# Altium integrated library Elantec Operational Amplifier.IntLib: 201 symbols (part 2 of 4)
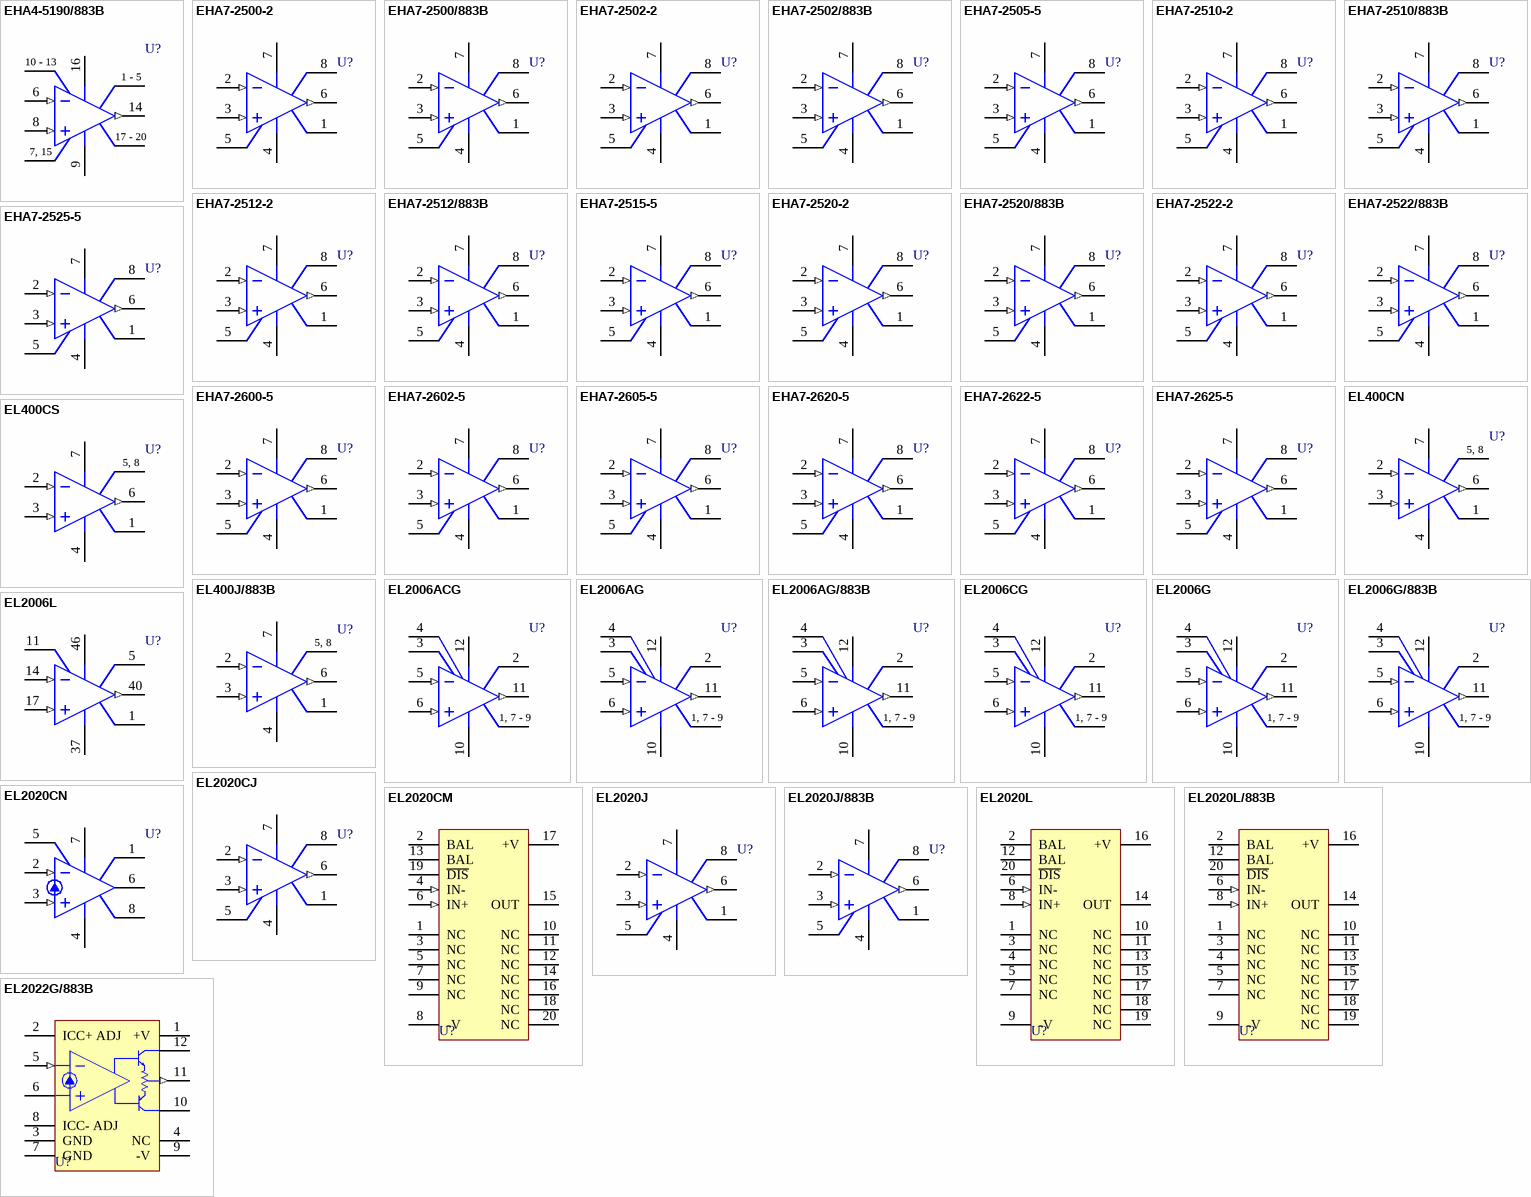
[diagram p8: symbols EHA4-5190/883B to EL2022G/883B]

## EL2020CM
designator U?
50 MHz Current Feedback Amplifier; Published: 8-Jun-2000; LatestRevisionDate: 13-Apr-2006; LatestRevisionNote: IPC-7351 Footprint Added.; DatasheetVersion: Dec-1995; PackageReference: SOL-20; Publisher: Altium Limited; PackageDescription: 20-Pin Small Outline Integrated Circuit 1.27 mm Pitch; ComponentLink1Description: Manufacturer Link; ComponentLink1URL: http://www.intersil.com/cda/home/
footprint SOL-20_N (SOIC, 20-Leads, Body 12.8x7.5mm, Pitch 1.27mm, IPC Medium Density)
footprint SOL-20_L (SOIC, 20-Leads, Body 12.8x7.5mm, Pitch 1.27mm, IPC High Density)
footprint SOL-20_M (SOIC, 20-Leads, Body 12.8x7.5mm, Pitch 1.27mm, IPC Low Density)
3D model SOL-20 (20-Pin Small Outline Integrated Circuit 1.27 mm Pitch)
simulation model EL2020 (SUBCKT)
pins: 1 NC, 2 BAL, 3 NC, 4 IN- (in), 5 NC, 6 IN+ (in), 7 NC, 8 -V (power), 9 NC, 10 NC, 11 NC, 12 NC, 13 BAL, 14 NC, 15 OUT (hiz), 16 NC, 17 +V (power), 18 NC, 19 ~{DIS}, 20 NC

## EL2020CN
designator U?
50 MHz Current Feedback Amplifier; Published: 8-Jun-2000; LatestRevisionDate: 17-Jul-2002; LatestRevisionNote: Re-released for DXP Platform.; DatasheetVersion: Dec-1995; PackageReference: MDP0031-8; Publisher: Altium Limited; PackageDescription: DIP; 8 Leads; Row Spacing 7.62 mm; Pitch 2.54 mm; ComponentLink1Description: Manufacturer Link; ComponentLink1URL: http://www.intersil.com/cda/home/
footprint MDP0031-8 (DIP; 8 Leads; Row Spacing 7.62 mm; Pitch 2.54 mm)
simulation model EL2020 (SUBCKT)
pins: 1 BAL, 2 IN- (in), 3 IN+ (in), 4 V- (power), 5 BAL, 6 OUT (hiz), 7 V+ (power), 8 ~{DIS}

## EL2020J
designator U?
50 MHz Current Feedback Amplifier; Published: 8-Jun-2000; LatestRevisionDate: 04-Mar-2005; LatestRevisionNote: Stylized 3D Model Added.; DatasheetVersion: Jul-1992; PackageReference: MDP0010; Publisher: Altium Limited; PackageDescription: DIP; 8 Leads; Row Spacing 7.62 mm; Pitch 2.54 mm; ComponentLink1Description: Manufacturer Link; ComponentLink1URL: http://www.intersil.com/cda/home/
footprint MDP0010 (DIP; 8 Leads; Row Spacing 7.62 mm; Pitch 2.54 mm)
3D model MDP0010 (DIP; 8 Leads; Row Spacing 7.62 mm; Pitch 2.54 mm)
simulation model EL2020 (SUBCKT)
pins: 1 BAL, 2 IN- (in), 3 IN+ (in), 4 V- (power), 5 BAL, 6 OUT (out), 7 V+ (power), 8 CMPEN

## EL2020J/883B
designator U?
50 MHz Current Feedback Amplifier; Published: 8-Jun-2000; LatestRevisionDate: 04-Mar-2005; LatestRevisionNote: Stylized 3D Model Added.; DatasheetVersion: Jul-1992; PackageReference: MDP0010; Publisher: Altium Limited; PackageDescription: DIP; 8 Leads; Row Spacing 7.62 mm; Pitch 2.54 mm; ComponentLink1Description: Manufacturer Link; ComponentLink1URL: http://www.intersil.com/cda/home/
footprint MDP0010 (DIP; 8 Leads; Row Spacing 7.62 mm; Pitch 2.54 mm)
3D model MDP0010 (DIP; 8 Leads; Row Spacing 7.62 mm; Pitch 2.54 mm)
simulation model EL2020 (SUBCKT)
pins: 1 BAL, 2 IN- (in), 3 IN+ (in), 4 V- (power), 5 BAL, 6 OUT (out), 7 V+ (power), 8 CMPEN

## EL2020L
designator U?
50 MHz Current Feedback Amplifier; Published: 8-Jun-2000; LatestRevisionDate: 17-Jul-2002; LatestRevisionNote: Re-released for DXP Platform.; DatasheetVersion: Jul-1992; PackageVersion: 1993; PackageReference: MDP0007; Publisher: Altium Limited; PackageDescription: Leadless Chip Carrier; 20 Terminals; Body 8.9 x 8.9 mm; ComponentLink1Description: Manufacturer Link; ComponentLink1URL: http://www.intersil.com/cda/home/
footprint MDP0007 (Leadless Chip Carrier; 20 Terminals; Body 8.9 x 8.9 mm)
simulation model EL2020 (SUBCKT)
pins: 1 NC, 2 BAL, 3 NC, 4 NC, 5 NC, 6 IN- (in), 7 NC, 8 IN+ (in), 9 -V (power), 10 NC, 11 NC, 12 BAL, 13 NC, 14 OUT (hiz), 15 NC, 16 +V (power), 17 NC, 18 NC, 19 NC, 20 ~{DIS}

## EL2020L/883B
designator U?
50 MHz Current Feedback Amplifier; Published: 8-Jun-2000; LatestRevisionDate: 17-Jul-2002; LatestRevisionNote: Re-released for DXP Platform.; DatasheetVersion: Jul-1992; PackageVersion: 1993; PackageReference: MDP0007; Publisher: Altium Limited; PackageDescription: Leadless Chip Carrier; 20 Terminals; Body 8.9 x 8.9 mm; ComponentLink1Description: Manufacturer Link; ComponentLink1URL: http://www.intersil.com/cda/home/
footprint MDP0007 (Leadless Chip Carrier; 20 Terminals; Body 8.9 x 8.9 mm)
simulation model EL2020 (SUBCKT)
pins: 1 NC, 2 BAL, 3 NC, 4 NC, 5 NC, 6 IN- (in), 7 NC, 8 IN+ (in), 9 -V (power), 10 NC, 11 NC, 12 BAL, 13 NC, 14 OUT (hiz), 15 NC, 16 +V (power), 17 NC, 18 NC, 19 NC, 20 ~{DIS}

## EL2022G/883B
designator U?
165 MHz Current Feedback Amplifier; Note: Pins 3 and 7 are connected to case.; Published: 8-Jun-2000; LatestRevisionDate: 17-Jul-2002; LatestRevisionNote: Re-released for DXP Platform.; DatasheetVersion: Jul-1991; PackageVersion: 1993; PackageReference: MDP0002; Publisher: Altium Limited; PackageDescription: Can; 12 Leads; 10.16 mm Square Array; Lead Dia. 0.48 mm (max); ComponentLink1Description: Manufacturer Link; ComponentLink1URL: http://www.intersil.com/cda/home/
footprint MDP0002 (Can; 12 Leads; 10.16 mm Square Array; Lead Dia. 0.48 mm (max))
pins: 1 +V (power), 2 ICC+ ADJ, 3 GND, 4 NC, 5 IN- (in), 6 IN+, 7 GND, 8 ICC- ADJ, 9 -V (power), 10 V- Collector (oc), 11 OUT (out), 12 V+ Collector (oc)

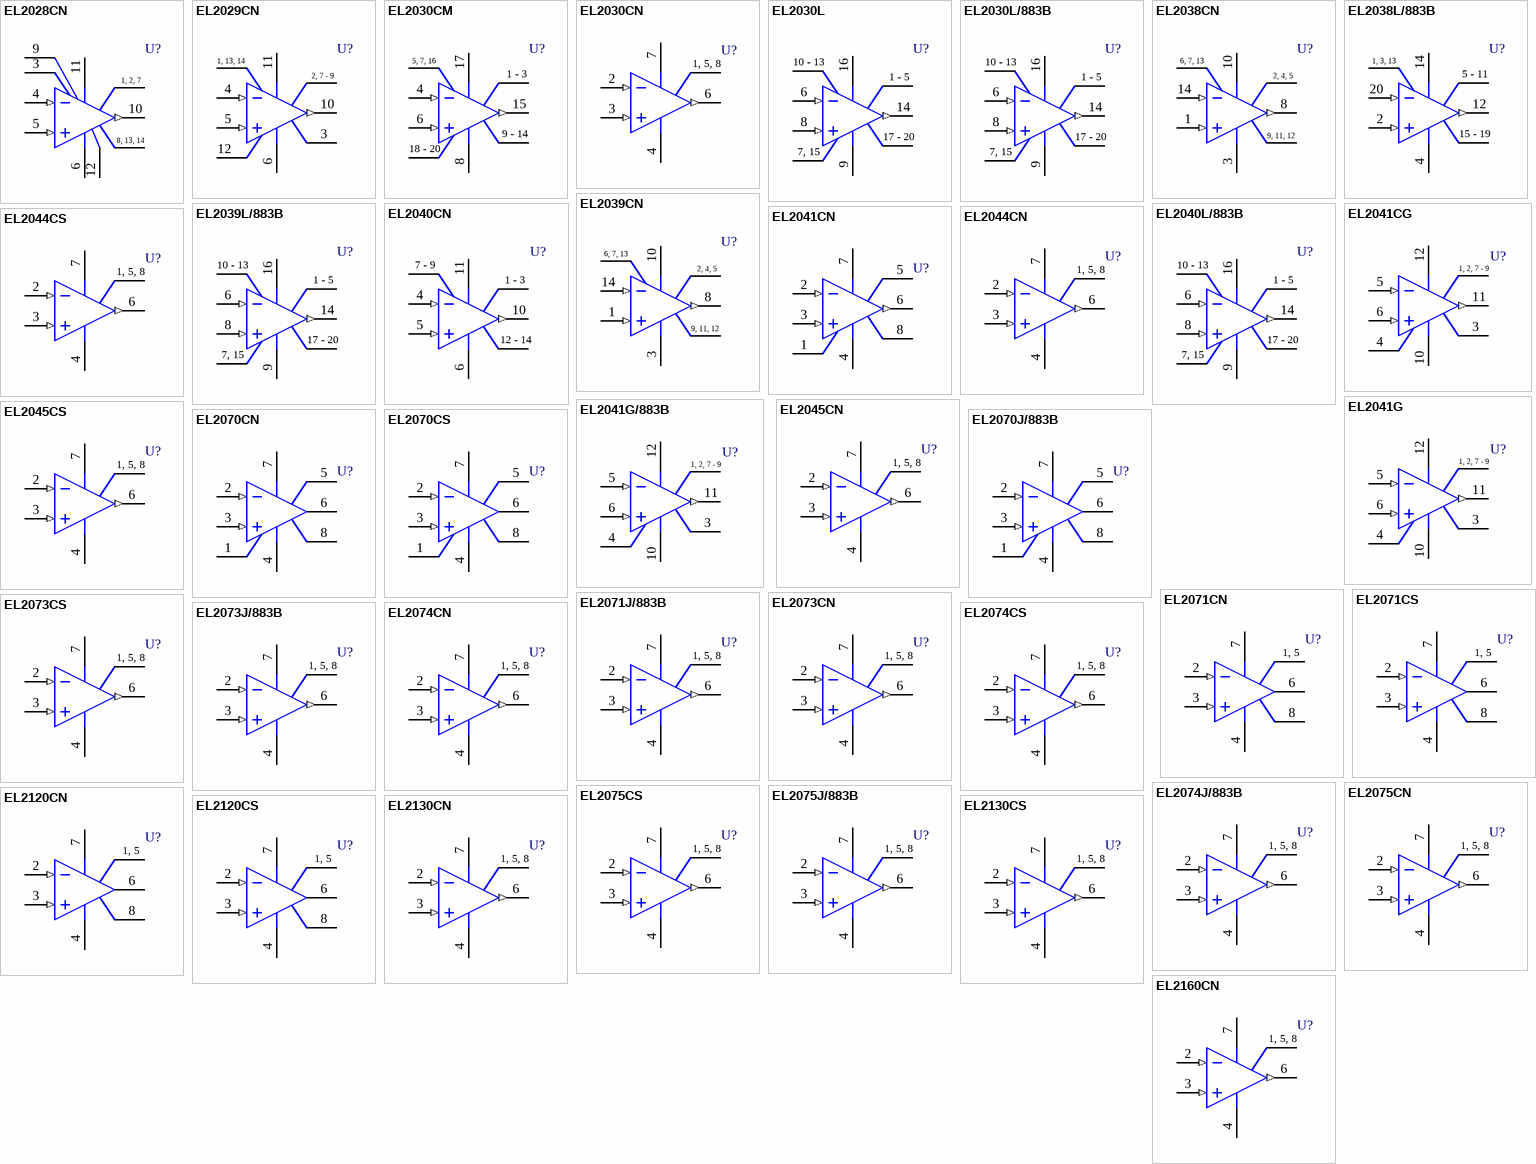
[diagram p2: symbols EL2028CN to EL2160CN]

## EL2028CN
designator U?
0.01% 200ns Unity Gain Stable Operational Amplifier; Note: Pins 1,2,7,8,13,14 are No Connection; Published: 8-Jun-2000; LatestRevisionDate: 04-Mar-2005; LatestRevisionNote: Stylized 3D Model Added.; DatasheetVersion: Jul-1991; PackageReference: MDP0031-14; Publisher: Altium Limited; PackageDescription: DIP; 14 Leads; Row Spacing 7.62 mm; Pitch 2.54 mm; ComponentLink1Description: Manufacturer Link; ComponentLink1URL: http://www.intersil.com/cda/home/
footprint MDP0031-14 (DIP; 14 Leads; Row Spacing 7.62 mm; Pitch 2.54 mm)
3D model MDP0031-14 (DIP; 14 Leads; Row Spacing 7.62 mm; Pitch 2.54 mm)
pins: 1 NC, 2 NC, 3 BAL, 4 IN- (in), 5 IN+ (in), 6 V- (power), 7 NC, 8 NC, 9 BAL, 10 OUT (out), 11 V+ (power), 12 GND (power), 13 NC, 14 NC
text: 1, 2, 7; 8, 13, 14

## EL2029CN
designator U?
0.01% 200ns Operational Amplifier Gain of 5 Stable; Note: Pins 1,2,7,8,13,14 are No Connection; Published: 8-Jun-2000; LatestRevisionDate: 04-Mar-2005; LatestRevisionNote: Stylized 3D Model Added.; DatasheetVersion: Jul-1991; PackageReference: MDP0031-14; Publisher: Altium Limited; PackageDescription: DIP; 14 Leads; Row Spacing 7.62 mm; Pitch 2.54 mm; ComponentLink1Description: Manufacturer Link; ComponentLink1URL: http://www.intersil.com/cda/home/
footprint MDP0031-14 (DIP; 14 Leads; Row Spacing 7.62 mm; Pitch 2.54 mm)
3D model MDP0031-14 (DIP; 14 Leads; Row Spacing 7.62 mm; Pitch 2.54 mm)
pins: 1 NC, 2 NC, 3 OS NULL, 4 IN- (in), 5 IN+ (in), 6 V- (power), 7 NC, 8 NC, 9 NC, 10 OUT (out), 11 V+ (power), 12 OS NULL, 13 NC, 14 NC
text: 1, 13, 14; 2, 7 - 9

## EL2030CM
designator U?
120 MHz Current Feedback Amplifier; Note: Pins 1-3,5,7,9-14,16,18-20 are No Connection; Published: 8-Jun-2000; LatestRevisionDate: 13-Apr-2006; LatestRevisionNote: IPC-7351 Footprint Added.; DatasheetVersion: Dec-1995; PackageReference: SOL-20; Publisher: Altium Limited; PackageDescription: 20-Pin Small Outline Integrated Circuit 1.27 mm Pitch; ComponentLink1Description: Manufacturer Link; ComponentLink1URL: http://www.intersil.com/cda/home/
footprint SOL-20_N (SOIC, 20-Leads, Body 12.8x7.5mm, Pitch 1.27mm, IPC Medium Density)
footprint SOL-20_L (SOIC, 20-Leads, Body 12.8x7.5mm, Pitch 1.27mm, IPC High Density)
footprint SOL-20_M (SOIC, 20-Leads, Body 12.8x7.5mm, Pitch 1.27mm, IPC Low Density)
3D model SOL-20 (20-Pin Small Outline Integrated Circuit 1.27 mm Pitch)
simulation model EL2030 (SUBCKT)
pins: 1 NC, 2 NC, 3 NC, 4 IN- (in), 5 NC, 6 IN+ (in), 7 NC, 8 V- (power), 9 NC, 10 NC, 11 NC, 12 NC, 13 NC, 14 NC, 15 OUT (out), 16 NC, 17 V+ (power), 18 NC, 19 NC, 20 NC
text: 5, 7, 16; 1 - 3; 9 - 14; 18 - 20

## EL2030CN
designator U?
120 MHz Current Feedback Amplifier; Note: Pins 1,5,8 are No Connection; Published: 8-Jun-2000; LatestRevisionDate: 17-Jul-2002; LatestRevisionNote: Re-released for DXP Platform.; DatasheetVersion: Dec-1995; PackageReference: MDP0031-8; Publisher: Altium Limited; PackageDescription: DIP; 8 Leads; Row Spacing 7.62 mm; Pitch 2.54 mm; ComponentLink1Description: Manufacturer Link; ComponentLink1URL: http://www.intersil.com/cda/home/
footprint MDP0031-8 (DIP; 8 Leads; Row Spacing 7.62 mm; Pitch 2.54 mm)
simulation model EL2030 (SUBCKT)
pins: 1 NC, 2 IN- (in), 3 IN+ (in), 4 V- (power), 5 NC, 6 OUT (out), 7 V+ (power), 8 NC
text: 1, 5, 8

## EL2030L
designator U?
120 MHz Current Feedback Amplifier; Note: Pins 1-5,7,10-13,15,17-20 are No Connection; Published: 8-Jun-2000; LatestRevisionDate: 17-Jul-2002; LatestRevisionNote: Re-released for DXP Platform.; DatasheetVersion: Jul-1992; PackageVersion: 1993; PackageReference: MDP0007; Publisher: Altium Limited; PackageDescription: Leadless Chip Carrier; 20 Terminals; Body 8.9 x 8.9 mm; ComponentLink1Description: Manufacturer Link; ComponentLink1URL: http://www.intersil.com/cda/home/
footprint MDP0007 (Leadless Chip Carrier; 20 Terminals; Body 8.9 x 8.9 mm)
simulation model EL2030 (SUBCKT)
pins: 1 NC, 2 NC, 3 NC, 4 NC, 5 NC, 6 IN- (in), 7 NC, 8 IN+ (in), 9 V- (power), 10 NC, 11 NC, 12 NC, 13 NC, 14 OUT (out), 15 NC, 16 V+ (power), 17 NC, 18 NC, 19 NC, 20 NC
text: 10 - 13; 1 - 5; 17 - 20; 7, 15

## EL2030L/883B
designator U?
120 MHz Current Feedback Amplifier; Note: Pins 1-5,7,10-13,15,17-20 are No Connection; Published: 8-Jun-2000; LatestRevisionDate: 17-Jul-2002; LatestRevisionNote: Re-released for DXP Platform.; DatasheetVersion: Jul-1992; PackageVersion: 1993; PackageReference: MDP0007; Publisher: Altium Limited; PackageDescription: Leadless Chip Carrier; 20 Terminals; Body 8.9 x 8.9 mm; ComponentLink1Description: Manufacturer Link; ComponentLink1URL: http://www.intersil.com/cda/home/
footprint MDP0007 (Leadless Chip Carrier; 20 Terminals; Body 8.9 x 8.9 mm)
simulation model EL2030 (SUBCKT)
pins: 1 NC, 2 NC, 3 NC, 4 NC, 5 NC, 6 IN- (in), 7 NC, 8 IN+ (in), 9 V- (power), 10 NC, 11 NC, 12 NC, 13 NC, 14 OUT (out), 15 NC, 16 V+ (power), 17 NC, 18 NC, 19 NC, 20 NC
text: 10 - 13; 1 - 5; 17 - 20; 7, 15

## EL2038CN
designator U?
1 GHz Operational Amplifier; Published: 8-Jun-2000; LatestRevisionDate: 04-Mar-2005; LatestRevisionNote: Stylized 3D Model Added.; DatasheetVersion: Jul-1992; PackageReference: MDP0031-14; Publisher: Altium Limited; PackageDescription: DIP; 14 Leads; Row Spacing 7.62 mm; Pitch 2.54 mm; ComponentLink1Description: Manufacturer Link; ComponentLink1URL: http://www.intersil.com/cda/home/
footprint MDP0031-14 (DIP; 14 Leads; Row Spacing 7.62 mm; Pitch 2.54 mm)
3D model MDP0031-14 (DIP; 14 Leads; Row Spacing 7.62 mm; Pitch 2.54 mm)
pins: 1 IN+ (in), 2 NC, 3 V- (power), 4 NC, 5 NC, 6 NC, 7 NC, 8 OUT (out), 9 NC, 10 V+ (power), 11 NC, 12 NC, 13 NC, 14 IN- (in)
text: 6, 7, 13; 2, 4, 5; 9, 11, 12

## EL2038L/883B
designator U?
1 GHz Operational Amplifier; Note: Pins 1,3,5-11,13,15-19 are No Connection; Published: 8-Jun-2000; LatestRevisionDate: 17-Jul-2002; LatestRevisionNote: Re-released for DXP Platform.; DatasheetVersion: Jul-1992; PackageVersion: 1993; PackageReference: MDP0007; Publisher: Altium Limited; PackageDescription: Leadless Chip Carrier; 20 Terminals; Body 8.9 x 8.9 mm; ComponentLink1Description: Manufacturer Link; ComponentLink1URL: http://www.intersil.com/cda/home/
footprint MDP0007 (Leadless Chip Carrier; 20 Terminals; Body 8.9 x 8.9 mm)
pins: 1 NC, 2 IN+ (in), 3 NC, 4 V- (power), 5 NC, 6 NC, 7 NC, 8 NC, 9 NC, 10 NC, 11 NC, 12 OUT (out), 13 NC, 14 V+ (power), 15 NC, 16 NC, 17 NC, 18 NC, 19 NC, 20 IN- (in)
text: 1, 3, 13; 5 - 11; 15 - 19

## EL2039CN
designator U?
Very High Slew Rate Wideband Operational Amplifier; Published: 8-Jun-2000; LatestRevisionDate: 04-Mar-2005; LatestRevisionNote: Stylized 3D Model Added.; DatasheetVersion: Nov-1993; PackageReference: MDP0031-14; Publisher: Altium Limited; PackageDescription: DIP; 14 Leads; Row Spacing 7.62 mm; Pitch 2.54 mm; ComponentLink1Description: Manufacturer Link; ComponentLink1URL: http://www.intersil.com/cda/home/
footprint MDP0031-14 (DIP; 14 Leads; Row Spacing 7.62 mm; Pitch 2.54 mm)
3D model MDP0031-14 (DIP; 14 Leads; Row Spacing 7.62 mm; Pitch 2.54 mm)
pins: 1 IN+ (in), 2 NC, 3 V- (power), 4 NC, 5 NC, 6 NC, 7 NC, 8 OUT (out), 9 NC, 10 V+ (power), 11 NC, 12 NC, 13 NC, 14 IN- (in)
text: 6, 7, 13; 2, 4, 5; 9, 11, 12

## EL2039L/883B
designator U?
Very High Slew Rate Wideband Operational Amplifier; Published: 8-Jun-2000; LatestRevisionDate: 17-Jul-2002; LatestRevisionNote: Re-released for DXP Platform.; DatasheetVersion: Jul-1991; PackageVersion: 1993; PackageReference: MDP0007; Publisher: Altium Limited; PackageDescription: Leadless Chip Carrier; 20 Terminals; Body 8.9 x 8.9 mm; ComponentLink1Description: Manufacturer Link; ComponentLink1URL: http://www.intersil.com/cda/home/
footprint MDP0007 (Leadless Chip Carrier; 20 Terminals; Body 8.9 x 8.9 mm)
pins: 1 NC, 2 NC, 3 NC, 4 NC, 5 NC, 6 IN- (in), 7 NC, 8 IN+ (in), 9 V- (power), 10 NC, 11 NC, 12 NC, 13 NC, 14 OUT (out), 15 NC, 16 V+ (power), 17 NC, 18 NC, 19 NC, 20 NC
text: 10 - 13; 1 - 5; 17 - 20; 7, 15

## EL2040CN
designator U?
Very High Slew Rate Wideband Operational Amplifier; Note: Pins 1-3,7-9,12-14 are No Connection; Published: 8-Jun-2000; LatestRevisionDate: 04-Mar-2005; LatestRevisionNote: Stylized 3D Model Added.; DatasheetVersion: Nov-1993; PackageReference: MDP0031-14; Publisher: Altium Limited; PackageDescription: DIP; 14 Leads; Row Spacing 7.62 mm; Pitch 2.54 mm; ComponentLink1Description: Manufacturer Link; ComponentLink1URL: http://www.intersil.com/cda/home/
footprint MDP0031-14 (DIP; 14 Leads; Row Spacing 7.62 mm; Pitch 2.54 mm)
3D model MDP0031-14 (DIP; 14 Leads; Row Spacing 7.62 mm; Pitch 2.54 mm)
pins: 1 NC, 2 NC, 3 NC, 4 IN- (in), 5 IN+ (in), 6 V- (power), 7 NC, 8 NC, 9 NC, 10 OUT (out), 11 V+ (power), 12 NC, 13 NC, 14 NC
text: 7 - 9; 1 - 3; 12 - 14

## EL2040L/883B
designator U?
Very High Slew Rate Wideband Operational Amplifier; Published: 8-Jun-2000; LatestRevisionDate: 17-Jul-2002; LatestRevisionNote: Re-released for DXP Platform.; DatasheetVersion: Jul-1991; PackageVersion: 1993; PackageReference: MDP0007; Publisher: Altium Limited; PackageDescription: Leadless Chip Carrier; 20 Terminals; Body 8.9 x 8.9 mm; ComponentLink1Description: Manufacturer Link; ComponentLink1URL: http://www.intersil.com/cda/home/
footprint MDP0007 (Leadless Chip Carrier; 20 Terminals; Body 8.9 x 8.9 mm)
pins: 1 NC, 2 NC, 3 NC, 4 NC, 5 NC, 6 IN- (in), 7 NC, 8 IN+ (in), 9 V- (power), 10 NC, 11 NC, 12 NC, 13 NC, 14 OUT (out), 15 NC, 16 V+ (power), 17 NC, 18 NC, 19 NC, 20 NC
text: 10 - 13; 1 - 5; 17 - 20; 7, 15

## EL2041CG
designator U?
Wideband, Fast Settling, Unity Gain Stable, Operational Amplifier; Note: Pins 1,2,7-9 are No Connection; Published: 8-Jun-2000; LatestRevisionDate: 17-Jul-2002; LatestRevisionNote: Re-released for DXP Platform.; DatasheetVersion: Jun-1992; PackageVersion: 1993; PackageReference: MDP0002; Publisher: Altium Limited; PackageDescription: Can; 12 Leads; 10.16 mm Square Array; Lead Dia. 0.48 mm (max); ComponentLink1Description: Manufacturer Link; ComponentLink1URL: http://www.intersil.com/cda/home/
footprint MDP0002 (Can; 12 Leads; 10.16 mm Square Array; Lead Dia. 0.48 mm (max))
pins: 1 NC, 2 NC, 3 BAL, 4 BAL, 5 IN- (in), 6 IN+ (in), 7 NC, 8 NC, 9 NC, 10 V- (power), 11 OUT (out), 12 V+ (power)
text: 1, 2, 7 - 9

## EL2041CN
designator U?
Wideband, Fast Settling, Unity Gain Stable, Operational Amplifier; Note: Pin 5 is No Connection; Published: 8-Jun-2000; LatestRevisionDate: 17-Jul-2002; LatestRevisionNote: Re-released for DXP Platform.; DatasheetVersion: Jun-1992; PackageReference: MDP0031-8; Publisher: Altium Limited; PackageDescription: DIP; 8 Leads; Row Spacing 7.62 mm; Pitch 2.54 mm; ComponentLink1Description: Manufacturer Link; ComponentLink1URL: http://www.intersil.com/cda/home/
footprint MDP0031-8 (DIP; 8 Leads; Row Spacing 7.62 mm; Pitch 2.54 mm)
pins: 1 CMPEN, 2 IN- (in), 3 IN+ (in), 4 V- (power), 5 NC, 6 OUT (out), 7 V+ (power), 8 CMPEN

## EL2041G
designator U?
Wideband, Fast Settling, Unity Gain Stable, Operational Amplifier; Note: Pins 1,2,7-9 are No Connection; Published: 8-Jun-2000; LatestRevisionDate: 17-Jul-2002; LatestRevisionNote: Re-released for DXP Platform.; DatasheetVersion: Jun-1992; PackageVersion: 1993; PackageReference: MDP0002; Publisher: Altium Limited; PackageDescription: Can; 12 Leads; 10.16 mm Square Array; Lead Dia. 0.48 mm (max); ComponentLink1Description: Manufacturer Link; ComponentLink1URL: http://www.intersil.com/cda/home/
footprint MDP0002 (Can; 12 Leads; 10.16 mm Square Array; Lead Dia. 0.48 mm (max))
pins: 1 NC, 2 NC, 3 BAL, 4 BAL, 5 IN- (in), 6 IN+ (in), 7 NC, 8 NC, 9 NC, 10 V- (power), 11 OUT (out), 12 V+ (power)
text: 1, 2, 7 - 9

## EL2041G/883B
designator U?
Wideband, Fast Settling, Unity Gain Stable, Operational Amplifier; Note: Pins 1,2,7-9 are No Connection; Published: 8-Jun-2000; LatestRevisionDate: 17-Jul-2002; LatestRevisionNote: Re-released for DXP Platform.; DatasheetVersion: Jun-1992; PackageVersion: 1993; PackageReference: MDP0002; Publisher: Altium Limited; PackageDescription: Can; 12 Leads; 10.16 mm Square Array; Lead Dia. 0.48 mm (max); ComponentLink1Description: Manufacturer Link; ComponentLink1URL: http://www.intersil.com/cda/home/
footprint MDP0002 (Can; 12 Leads; 10.16 mm Square Array; Lead Dia. 0.48 mm (max))
pins: 1 NC, 2 NC, 3 BAL, 4 BAL, 5 IN- (in), 6 IN+ (in), 7 NC, 8 NC, 9 NC, 10 V- (power), 11 OUT (out), 12 V+ (power)
text: 1, 2, 7 - 9

## EL2044CN
designator U?
Low Power / Low Voltage 120 MHz Unity-Gain Stable Operational Amplifier; Note: Pins 1,5,8 are No Connection; Published: 8-Jun-2000; LatestRevisionDate: 17-Jul-2002; LatestRevisionNote: Re-released for DXP Platform.; DatasheetVersion: Dec-1995; PackageReference: MDP0031-8; Publisher: Altium Limited; PackageDescription: DIP; 8 Leads; Row Spacing 7.62 mm; Pitch 2.54 mm; ComponentLink1Description: Manufacturer Link; ComponentLink1URL: http://www.intersil.com/cda/home/; ComponentLink2Description: Datasheet; ComponentLink2URL: http://www.intersil.com/data/fn/fn7029.pdf
footprint MDP0031-8 (DIP; 8 Leads; Row Spacing 7.62 mm; Pitch 2.54 mm)
simulation model EL2044 (SUBCKT)
pins: 1 NC, 2 IN- (in), 3 IN+ (in), 4 V- (power), 5 NC, 6 OUT (out), 7 V+ (power), 8 NC
text: 1, 5, 8

## EL2044CS
designator U?
Low Power / Low Voltage 120 MHz Unity-Gain Stable Operational Amplifier; Note: Pins 1,5,8 are No Connection; Published: 8-Jun-2000; LatestRevisionDate: 13-Apr-2006; LatestRevisionNote: IPC-7351 Footprint Added.; DatasheetVersion: Dec-1995; PackageReference: SO-8; Publisher: Altium Limited; PackageDescription: 8-Pin Small Outline Integrated Circuit 1.27 mm Pitch; ComponentLink1Description: Manufacturer Link; ComponentLink1URL: http://www.intersil.com/cda/home/; ComponentLink2Description: Datasheet; ComponentLink2URL: http://www.intersil.com/data/fn/fn7029.pdf
footprint SO-8_N (SOIC, 8-Leads, Body 4.9x3.9mm, Pitch 1.27mm, IPC Medium Density)
footprint SO-8_L (SOIC, 8-Leads, Body 4.9x3.9mm, Pitch 1.27mm, IPC High Density)
footprint SO-8_M (SOIC, 8-Leads, Body 4.9x3.9mm, Pitch 1.27mm, IPC Low Density)
3D model SO-8 (8-Pin Small Outline Integrated Circuit 1.27 mm Pitch)
simulation model EL2044 (SUBCKT)
pins: 1 NC, 2 IN- (in), 3 IN+ (in), 4 V- (power), 5 NC, 6 OUT (out), 7 V+ (power), 8 NC
text: 1, 5, 8

## EL2045CN
designator U?
Low Power 100 MHz Gain-of-2 Stable Operational Amplifier; Note: Pins 1,5,8 are No Connection; Published: 8-Jun-2000; LatestRevisionDate: 17-Jul-2002; LatestRevisionNote: Re-released for DXP Platform.; DatasheetVersion: Dec-1995; PackageReference: MDP0031-8; Publisher: Altium Limited; PackageDescription: DIP; 8 Leads; Row Spacing 7.62 mm; Pitch 2.54 mm; ComponentLink1Description: Manufacturer Link; ComponentLink1URL: http://www.intersil.com/cda/home/; ComponentLink2Description: Datasheet; ComponentLink2URL: http://www.intersil.com/data/fn/fn7030.pdf
footprint MDP0031-8 (DIP; 8 Leads; Row Spacing 7.62 mm; Pitch 2.54 mm)
simulation model EL2045 (SUBCKT)
pins: 1 NC, 2 IN- (in), 3 IN+ (in), 4 V- (power), 5 NC, 6 OUT (out), 7 V+ (power), 8 NC
text: 1, 5, 8

## EL2045CS
designator U?
Low Power 100 MHz Gain-of-2 Stable Operational Amplifier; Note: Pins 1,5,8 are No Connection; Published: 8-Jun-2000; LatestRevisionDate: 13-Apr-2006; LatestRevisionNote: IPC-7351 Footprint Added.; DatasheetVersion: Dec-1995; PackageReference: SO-8; Publisher: Altium Limited; PackageDescription: 8-Pin Small Outline Integrated Circuit 1.27 mm Pitch; ComponentLink1Description: Manufacturer Link; ComponentLink1URL: http://www.intersil.com/cda/home/; ComponentLink2Description: Datasheet; ComponentLink2URL: http://www.intersil.com/data/fn/fn7030.pdf
footprint SO-8_N (SOIC, 8-Leads, Body 4.9x3.9mm, Pitch 1.27mm, IPC Medium Density)
footprint SO-8_L (SOIC, 8-Leads, Body 4.9x3.9mm, Pitch 1.27mm, IPC High Density)
footprint SO-8_M (SOIC, 8-Leads, Body 4.9x3.9mm, Pitch 1.27mm, IPC Low Density)
3D model SO-8 (8-Pin Small Outline Integrated Circuit 1.27 mm Pitch)
simulation model EL2045 (SUBCKT)
pins: 1 NC, 2 IN- (in), 3 IN+ (in), 4 V- (power), 5 NC, 6 OUT (out), 7 V+ (power), 8 NC
text: 1, 5, 8

## EL2070CN
designator U?
200 MHz Current Feedback Amplifier; Published: 8-Jun-2000; LatestRevisionDate: 17-Jul-2002; LatestRevisionNote: Re-released for DXP Platform.; DatasheetVersion: Dec-1995; PackageReference: MDP0031-8; Publisher: Altium Limited; PackageDescription: DIP; 8 Leads; Row Spacing 7.62 mm; Pitch 2.54 mm; ComponentLink1Description: Manufacturer Link; ComponentLink1URL: http://www.intersil.com/cda/home/
footprint MDP0031-8 (DIP; 8 Leads; Row Spacing 7.62 mm; Pitch 2.54 mm)
simulation model EL2070 (SUBCKT)
pins: 1 OS ADJ, 2 IN- (in), 3 IN+ (in), 4 V- (power), 5 NC, 6 OUT (hiz), 7 V+ (power), 8 ~{DIS}

## EL2070CS
designator U?
200 MHz Current Feedback Amplifier; Published: 8-Jun-2000; LatestRevisionDate: 13-Apr-2006; LatestRevisionNote: IPC-7351 Footprint Added.; DatasheetVersion: Dec-1995; PackageReference: SO-8; Publisher: Altium Limited; PackageDescription: 8-Pin Small Outline Integrated Circuit 1.27 mm Pitch; ComponentLink1Description: Manufacturer Link; ComponentLink1URL: http://www.intersil.com/cda/home/
footprint SO-8_N (SOIC, 8-Leads, Body 4.9x3.9mm, Pitch 1.27mm, IPC Medium Density)
footprint SO-8_L (SOIC, 8-Leads, Body 4.9x3.9mm, Pitch 1.27mm, IPC High Density)
footprint SO-8_M (SOIC, 8-Leads, Body 4.9x3.9mm, Pitch 1.27mm, IPC Low Density)
3D model SO-8 (8-Pin Small Outline Integrated Circuit 1.27 mm Pitch)
simulation model EL2070 (SUBCKT)
pins: 1 OS ADJ, 2 IN- (in), 3 IN+ (in), 4 V- (power), 5 NC, 6 OUT (hiz), 7 V+ (power), 8 ~{DIS}

## EL2070J/883B
designator U?
200 MHz Current Feedback Amplifier; Note: Pin 5 is No Connection; Published: 8-Jun-2000; LatestRevisionDate: 04-Mar-2005; LatestRevisionNote: Stylized 3D Model Added.; DatasheetVersion: Jul-1992; PackageReference: MDP0010; Publisher: Altium Limited; PackageDescription: DIP; 8 Leads; Row Spacing 7.62 mm; Pitch 2.54 mm; ComponentLink1Description: Manufacturer Link; ComponentLink1URL: http://www.intersil.com/cda/home/
footprint MDP0010 (DIP; 8 Leads; Row Spacing 7.62 mm; Pitch 2.54 mm)
3D model MDP0010 (DIP; 8 Leads; Row Spacing 7.62 mm; Pitch 2.54 mm)
simulation model EL2070 (SUBCKT)
pins: 1 OS ADJ, 2 IN- (in), 3 IN+ (in), 4 V- (power), 5 NC, 6 OUT (hiz), 7 V+ (power), 8 ~{DIS}

## EL2071CN
designator U?
150 MHz Current Feedback  Amplifier; Published: 8-Jun-2000; LatestRevisionDate: 17-Jul-2002; LatestRevisionNote: Re-released for DXP Platform.; DatasheetVersion: Dec-1995; PackageReference: MDP0031-8; Publisher: Altium Limited; PackageDescription: DIP; 8 Leads; Row Spacing 7.62 mm; Pitch 2.54 mm; ComponentLink1Description: Manufacturer Link; ComponentLink1URL: http://www.intersil.com/cda/home/
footprint MDP0031-8 (DIP; 8 Leads; Row Spacing 7.62 mm; Pitch 2.54 mm)
simulation model EL2071 (SUBCKT)
pins: 1 NC, 2 IN- (in), 3 IN+ (in), 4 V- (power), 5 NC, 6 OUT (hiz), 7 V+ (power), 8 DIS
text: 1, 5

## EL2071CS
designator U?
150 MHz Current Feedback Amplifier; Published: 8-Jun-2000; LatestRevisionDate: 13-Apr-2006; LatestRevisionNote: IPC-7351 Footprint Added.; DatasheetVersion: Dec-1995; PackageReference: SO-8; Publisher: Altium Limited; PackageDescription: 8-Pin Small Outline Integrated Circuit 1.27 mm Pitch; ComponentLink1Description: Manufacturer Link; ComponentLink1URL: http://www.intersil.com/cda/home/
footprint SO-8_N (SOIC, 8-Leads, Body 4.9x3.9mm, Pitch 1.27mm, IPC Medium Density)
footprint SO-8_L (SOIC, 8-Leads, Body 4.9x3.9mm, Pitch 1.27mm, IPC High Density)
footprint SO-8_M (SOIC, 8-Leads, Body 4.9x3.9mm, Pitch 1.27mm, IPC Low Density)
3D model SO-8 (8-Pin Small Outline Integrated Circuit 1.27 mm Pitch)
simulation model EL2071 (SUBCKT)
pins: 1 NC, 2 IN- (in), 3 IN+ (in), 4 V- (power), 5 NC, 6 OUT (hiz), 7 V+ (power), 8 DIS
text: 1, 5

## EL2071J/883B
designator U?
150 MHz Current Feedback Amplifier; Note: Pins 1,5,8 are No Connection; Published: 8-Jun-2000; LatestRevisionDate: 04-Mar-2005; LatestRevisionNote: Stylized 3D Model Added.; DatasheetVersion: Jul-1992; PackageReference: MDP0010; Publisher: Altium Limited; PackageDescription: DIP; 8 Leads; Row Spacing 7.62 mm; Pitch 2.54 mm; ComponentLink1Description: Manufacturer Link; ComponentLink1URL: http://www.intersil.com/cda/home/
footprint MDP0010 (DIP; 8 Leads; Row Spacing 7.62 mm; Pitch 2.54 mm)
3D model MDP0010 (DIP; 8 Leads; Row Spacing 7.62 mm; Pitch 2.54 mm)
simulation model EL2071 (SUBCKT)
pins: 1 NC, 2 IN- (in), 3 IN+ (in), 4 V- (power), 5 NC, 6 OUT (out), 7 V+ (power), 8 NC
text: 1, 5, 8

## EL2073CN
designator U?
200 MHz Unity-Gain Stable Operational Amplifier; Note: Pins 1,5,8 are No Connection; Published: 8-Jun-2000; LatestRevisionDate: 17-Jul-2002; LatestRevisionNote: Re-released for DXP Platform.; DatasheetVersion: Jan-1995; PackageReference: MDP0031-8; Publisher: Altium Limited; PackageDescription: DIP; 8 Leads; Row Spacing 7.62 mm; Pitch 2.54 mm; ComponentLink1Description: Manufacturer Link; ComponentLink1URL: http://www.intersil.com/cda/home/
footprint MDP0031-8 (DIP; 8 Leads; Row Spacing 7.62 mm; Pitch 2.54 mm)
simulation model EL2073 (SUBCKT)
pins: 1 NC, 2 IN- (in), 3 IN+ (in), 4 V- (power), 5 NC, 6 OUT (out), 7 V+ (power), 8 NC
text: 1, 5, 8

## EL2073CS
designator U?
200 MHz Unity-Gain Stable Operational Amplifier; Note: Pins 1,5,8 are No Connection; Published: 8-Jun-2000; LatestRevisionDate: 13-Apr-2006; LatestRevisionNote: IPC-7351 Footprint Added.; DatasheetVersion: Jan-1995; PackageReference: SO-8; Publisher: Altium Limited; PackageDescription: 8-Pin Small Outline Integrated Circuit 1.27 mm Pitch; ComponentLink1Description: Manufacturer Link; ComponentLink1URL: http://www.intersil.com/cda/home/
footprint SO-8_N (SOIC, 8-Leads, Body 4.9x3.9mm, Pitch 1.27mm, IPC Medium Density)
footprint SO-8_L (SOIC, 8-Leads, Body 4.9x3.9mm, Pitch 1.27mm, IPC High Density)
footprint SO-8_M (SOIC, 8-Leads, Body 4.9x3.9mm, Pitch 1.27mm, IPC Low Density)
3D model SO-8 (8-Pin Small Outline Integrated Circuit 1.27 mm Pitch)
simulation model EL2073 (SUBCKT)
pins: 1 NC, 2 IN- (in), 3 IN+ (in), 4 V- (power), 5 NC, 6 OUT (out), 7 V+ (power), 8 NC
text: 1, 5, 8

## EL2073J/883B
designator U?
200 MHz Unity-Gain Stable Operational Amplifier; Note: Pins 1,5,8 are No Connection; Published: 8-Jun-2000; LatestRevisionDate: 04-Mar-2005; LatestRevisionNote: Stylized 3D Model Added.; DatasheetVersion: Jul-1992; PackageReference: MDP0010; Publisher: Altium Limited; PackageDescription: DIP; 8 Leads; Row Spacing 7.62 mm; Pitch 2.54 mm; ComponentLink1Description: Manufacturer Link; ComponentLink1URL: http://www.intersil.com/cda/home/
footprint MDP0010 (DIP; 8 Leads; Row Spacing 7.62 mm; Pitch 2.54 mm)
3D model MDP0010 (DIP; 8 Leads; Row Spacing 7.62 mm; Pitch 2.54 mm)
simulation model EL2073 (SUBCKT)
pins: 1 NC, 2 IN- (in), 3 IN+ (in), 4 V- (power), 5 NC, 6 OUT (out), 7 V+ (power), 8 NC
text: 1, 5, 8

## EL2074CN
designator U?
400 MHz GBWP Gain-of-2 Stable Operational Amplifier; Note: Pins 1,5,8 are No Connection; Published: 8-Jun-2000; LatestRevisionDate: 17-Jul-2002; LatestRevisionNote: Re-released for DXP Platform.; DatasheetVersion: Jan-1995; PackageReference: MDP0031-8; Publisher: Altium Limited; PackageDescription: DIP; 8 Leads; Row Spacing 7.62 mm; Pitch 2.54 mm; ComponentLink1Description: Manufacturer Link; ComponentLink1URL: http://www.intersil.com/cda/home/
footprint MDP0031-8 (DIP; 8 Leads; Row Spacing 7.62 mm; Pitch 2.54 mm)
simulation model EL2074 (SUBCKT)
pins: 1 NC, 2 IN- (in), 3 IN+ (in), 4 V- (power), 5 NC, 6 OUT (out), 7 V+ (power), 8 NC
text: 1, 5, 8

## EL2074CS
designator U?
400 MHz GBWP Gain-of-2 Stable Operational Amplifier; Note: Pins 1,5,8 are No Connection; Published: 8-Jun-2000; LatestRevisionDate: 13-Apr-2006; LatestRevisionNote: IPC-7351 Footprint Added.; DatasheetVersion: Jan-1995; PackageReference: SO-8; Publisher: Altium Limited; PackageDescription: 8-Pin Small Outline Integrated Circuit 1.27 mm Pitch; ComponentLink1Description: Manufacturer Link; ComponentLink1URL: http://www.intersil.com/cda/home/
footprint SO-8_N (SOIC, 8-Leads, Body 4.9x3.9mm, Pitch 1.27mm, IPC Medium Density)
footprint SO-8_L (SOIC, 8-Leads, Body 4.9x3.9mm, Pitch 1.27mm, IPC High Density)
footprint SO-8_M (SOIC, 8-Leads, Body 4.9x3.9mm, Pitch 1.27mm, IPC Low Density)
3D model SO-8 (8-Pin Small Outline Integrated Circuit 1.27 mm Pitch)
simulation model EL2074 (SUBCKT)
pins: 1 NC, 2 IN- (in), 3 IN+ (in), 4 V- (power), 5 NC, 6 OUT (out), 7 V+ (power), 8 NC
text: 1, 5, 8

## EL2074J/883B
designator U?
400 MHz GBWP Gain-of-2 Stable Operational Amplifier; Note: Pins 1,5,8 are No Connection; Published: 8-Jun-2000; LatestRevisionDate: 04-Mar-2005; LatestRevisionNote: Stylized 3D Model Added.; DatasheetVersion: Aug-1992; PackageReference: MDP0010; Publisher: Altium Limited; PackageDescription: DIP; 8 Leads; Row Spacing 7.62 mm; Pitch 2.54 mm; ComponentLink1Description: Manufacturer Link; ComponentLink1URL: http://www.intersil.com/cda/home/
footprint MDP0010 (DIP; 8 Leads; Row Spacing 7.62 mm; Pitch 2.54 mm)
3D model MDP0010 (DIP; 8 Leads; Row Spacing 7.62 mm; Pitch 2.54 mm)
simulation model EL2074 (SUBCKT)
pins: 1 NC, 2 IN- (in), 3 IN+ (in), 4 V- (power), 5 NC, 6 OUT (out), 7 V+ (power), 8 NC
text: 1, 5, 8

## EL2075CN
designator U?
2 GHz GBWP Gain-of-10 Stable Operational Amplifier; Note: Pins 1,5,8 are No Connection; Published: 8-Jun-2000; LatestRevisionDate: 17-Jul-2002; LatestRevisionNote: Re-released for DXP Platform.; DatasheetVersion: Jan-1995; PackageReference: MDP0031-8; Publisher: Altium Limited; PackageDescription: DIP; 8 Leads; Row Spacing 7.62 mm; Pitch 2.54 mm; ComponentLink1Description: Manufacturer Link; ComponentLink1URL: http://www.intersil.com/cda/home/
footprint MDP0031-8 (DIP; 8 Leads; Row Spacing 7.62 mm; Pitch 2.54 mm)
simulation model EL2075 (SUBCKT)
pins: 1 NC, 2 IN- (in), 3 IN+ (in), 4 V- (power), 5 NC, 6 OUT (out), 7 V+ (power), 8 NC
text: 1, 5, 8

## EL2075CS
designator U?
2 GHz GBWP Gain-of-10 Stable Operational Amplifier; Note: Pins 1,5,8 are No Connection; Published: 8-Jun-2000; LatestRevisionDate: 13-Apr-2006; LatestRevisionNote: IPC-7351 Footprint Added.; DatasheetVersion: Jan-1995; PackageReference: SO-8; Publisher: Altium Limited; PackageDescription: 8-Pin Small Outline Integrated Circuit 1.27 mm Pitch; ComponentLink1Description: Manufacturer Link; ComponentLink1URL: http://www.intersil.com/cda/home/
footprint SO-8_N (SOIC, 8-Leads, Body 4.9x3.9mm, Pitch 1.27mm, IPC Medium Density)
footprint SO-8_L (SOIC, 8-Leads, Body 4.9x3.9mm, Pitch 1.27mm, IPC High Density)
footprint SO-8_M (SOIC, 8-Leads, Body 4.9x3.9mm, Pitch 1.27mm, IPC Low Density)
3D model SO-8 (8-Pin Small Outline Integrated Circuit 1.27 mm Pitch)
simulation model EL2075 (SUBCKT)
pins: 1 NC, 2 IN- (in), 3 IN+ (in), 4 V- (power), 5 NC, 6 OUT (out), 7 V+ (power), 8 NC
text: 1, 5, 8

## EL2075J/883B
designator U?
2 GHz GBWP Gain-of-10 Stable Operational Amplifier; Note: Pins 1,5,8 are No Connection; Published: 8-Jun-2000; LatestRevisionDate: 04-Mar-2005; LatestRevisionNote: Stylized 3D Model Added.; DatasheetVersion: Aug-1992; PackageReference: MDP0010; Publisher: Altium Limited; PackageDescription: DIP; 8 Leads; Row Spacing 7.62 mm; Pitch 2.54 mm; ComponentLink1Description: Manufacturer Link; ComponentLink1URL: http://www.intersil.com/cda/home/
footprint MDP0010 (DIP; 8 Leads; Row Spacing 7.62 mm; Pitch 2.54 mm)
3D model MDP0010 (DIP; 8 Leads; Row Spacing 7.62 mm; Pitch 2.54 mm)
simulation model EL2075 (SUBCKT)
pins: 1 NC, 2 IN- (in), 3 IN+ (in), 4 V- (power), 5 NC, 6 OUT (out), 7 V+ (power), 8 NC
text: 1, 5, 8

## EL2120CN
designator U?
100 MHz Current Feedback  Amplifier; Note: Pins 1,5 are No Connection; Published: 8-Jun-2000; LatestRevisionDate: 17-Jul-2002; LatestRevisionNote: Re-released for DXP Platform.; DatasheetVersion: Jan-1996; PackageReference: MDP0031-8; Publisher: Altium Limited; PackageDescription: DIP; 8 Leads; Row Spacing 7.62 mm; Pitch 2.54 mm; ComponentLink1Description: Manufacturer Link; ComponentLink1URL: http://www.intersil.com/cda/home/
footprint MDP0031-8 (DIP; 8 Leads; Row Spacing 7.62 mm; Pitch 2.54 mm)
simulation model EL2120 (SUBCKT)
pins: 1 NC, 2 IN- (in), 3 IN+ (in), 4 V- (power), 5 NC, 6 OUT (hiz), 7 V+ (power), 8 ~{DIS}
text: 1, 5

## EL2120CS
designator U?
100 MHz Current Feedback  Amplifier; Note: Pins 1,5 are No Connection; Published: 8-Jun-2000; LatestRevisionDate: 13-Apr-2006; LatestRevisionNote: IPC-7351 Footprint Added.; DatasheetVersion: Jan-1996; PackageReference: SO-8; Publisher: Altium Limited; PackageDescription: 8-Pin Small Outline Integrated Circuit 1.27 mm Pitch; ComponentLink1Description: Manufacturer Link; ComponentLink1URL: http://www.intersil.com/cda/home/
footprint SO-8_N (SOIC, 8-Leads, Body 4.9x3.9mm, Pitch 1.27mm, IPC Medium Density)
footprint SO-8_L (SOIC, 8-Leads, Body 4.9x3.9mm, Pitch 1.27mm, IPC High Density)
footprint SO-8_M (SOIC, 8-Leads, Body 4.9x3.9mm, Pitch 1.27mm, IPC Low Density)
3D model SO-8 (8-Pin Small Outline Integrated Circuit 1.27 mm Pitch)
simulation model EL2120 (SUBCKT)
pins: 1 NC, 2 IN- (in), 3 IN+ (in), 4 V- (power), 5 NC, 6 OUT (hiz), 7 V+ (power), 8 ~{DIS}
text: 1, 5

## EL2130CN
designator U?
85 MHz Current Feedback Amplifier; Note: Pins 1,5,8 are No Connection; Published: 8-Jun-2000; LatestRevisionDate: 17-Jul-2002; LatestRevisionNote: Re-released for DXP Platform.; DatasheetVersion: Dec-1995; PackageReference: MDP0031-8; Publisher: Altium Limited; PackageDescription: DIP; 8 Leads; Row Spacing 7.62 mm; Pitch 2.54 mm; ComponentLink1Description: Manufacturer Link; ComponentLink1URL: http://www.intersil.com/cda/home/
footprint MDP0031-8 (DIP; 8 Leads; Row Spacing 7.62 mm; Pitch 2.54 mm)
pins: 1 NC, 2 IN- (in), 3 IN+ (in), 4 V- (power), 5 NC, 6 OUT (out), 7 V+ (power), 8 NC
text: 1, 5, 8

## EL2130CS
designator U?
85 MHz Current Feedback Amplifier; Note: Pins 1,5,8 are No Connection; Published: 8-Jun-2000; LatestRevisionDate: 13-Apr-2006; LatestRevisionNote: IPC-7351 Footprint Added.; DatasheetVersion: Dec-1995; PackageReference: SO-8; Publisher: Altium Limited; PackageDescription: 8-Pin Small Outline Integrated Circuit 1.27 mm Pitch; ComponentLink1Description: Manufacturer Link; ComponentLink1URL: http://www.intersil.com/cda/home/
footprint SO-8_N (SOIC, 8-Leads, Body 4.9x3.9mm, Pitch 1.27mm, IPC Medium Density)
footprint SO-8_L (SOIC, 8-Leads, Body 4.9x3.9mm, Pitch 1.27mm, IPC High Density)
footprint SO-8_M (SOIC, 8-Leads, Body 4.9x3.9mm, Pitch 1.27mm, IPC Low Density)
3D model SO-8 (8-Pin Small Outline Integrated Circuit 1.27 mm Pitch)
pins: 1 NC, 2 IN- (in), 3 IN+ (in), 4 V- (power), 5 NC, 6 OUT (out), 7 V+ (power), 8 NC
text: 1, 5, 8

## EL2160CN
designator U?
130 MHz Current Feedback Amplifier; Note: Pins 1,5,8 are No Connection; Published: 8-Jun-2000; LatestRevisionDate: 17-Jul-2002; LatestRevisionNote: Re-released for DXP Platform.; DatasheetVersion: Dec-1995; PackageReference: MDP0031-8; Publisher: Altium Limited; PackageDescription: DIP; 8 Leads; Row Spacing 7.62 mm; Pitch 2.54 mm; ComponentLink1Description: Manufacturer Link; ComponentLink1URL: http://www.intersil.com/cda/home/
footprint MDP0031-8 (DIP; 8 Leads; Row Spacing 7.62 mm; Pitch 2.54 mm)
simulation model EL2160 (SUBCKT)
pins: 1 NC, 2 IN- (in), 3 IN+ (in), 4 V- (power), 5 NC, 6 OUT (out), 7 V+ (power), 8 NC
text: 1, 5, 8

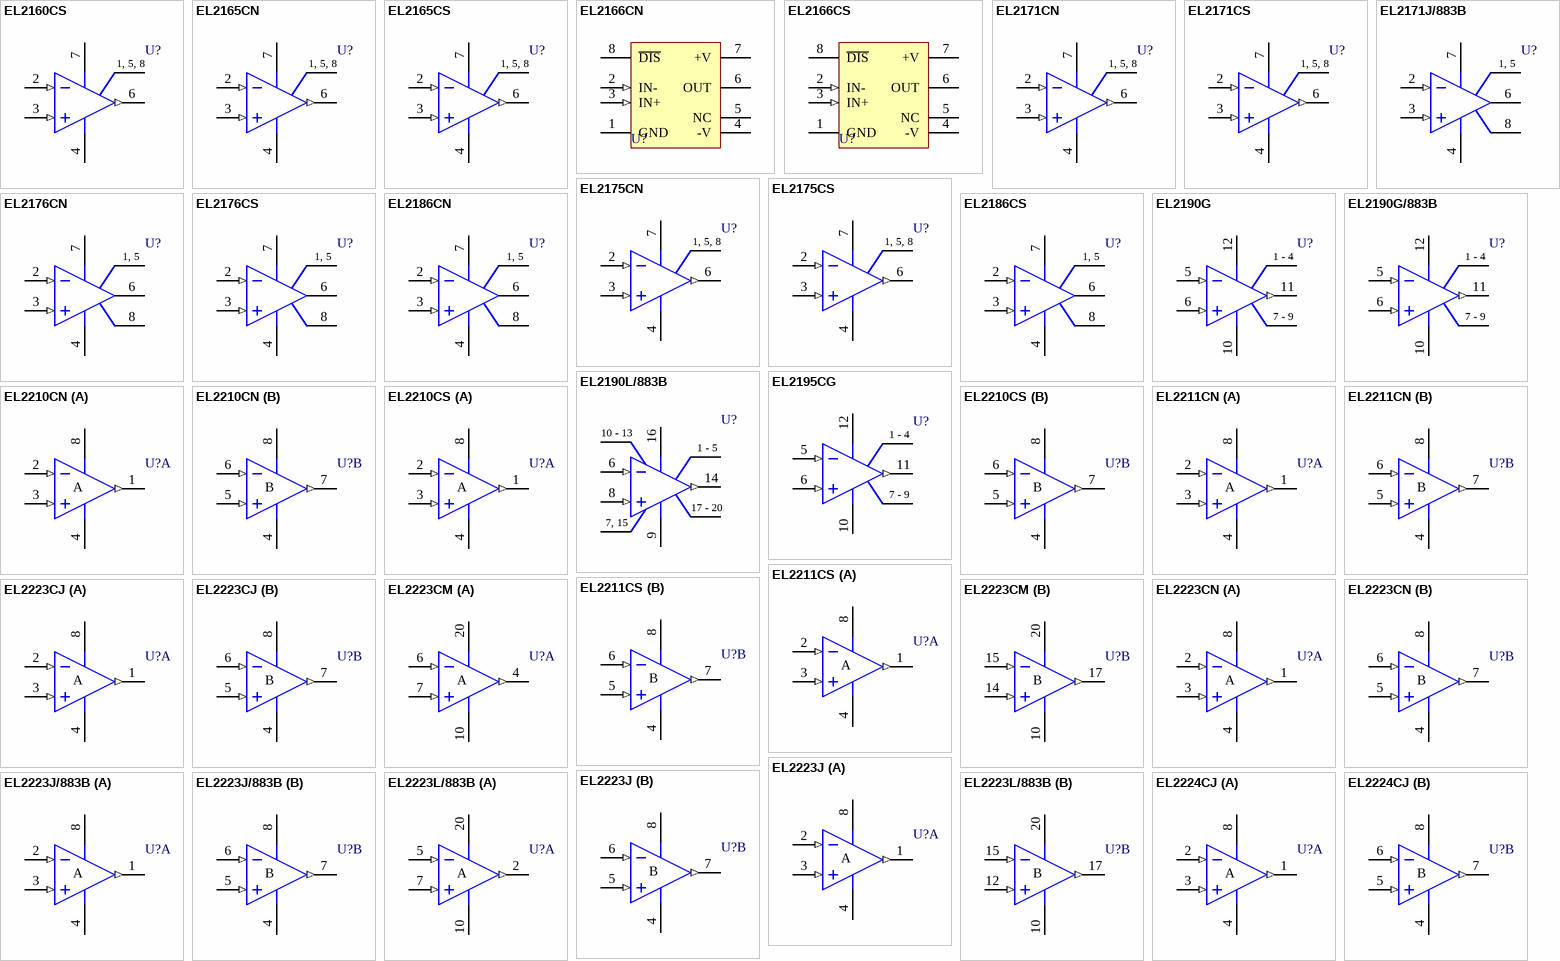
[diagram p3: symbols EL2160CS to EL2224CJ]

## EL2160CS
designator U?
130 MHz Current Feedback Amplifier; Note: Pins 1,5,8 are No Connection; Published: 8-Jun-2000; LatestRevisionDate: 13-Apr-2006; LatestRevisionNote: IPC-7351 Footprint Added.; DatasheetVersion: Dec-1995; PackageReference: SO-8; Publisher: Altium Limited; PackageDescription: 8-Pin Small Outline Integrated Circuit 1.27 mm Pitch; ComponentLink1Description: Manufacturer Link; ComponentLink1URL: http://www.intersil.com/cda/home/
footprint SO-8_N (SOIC, 8-Leads, Body 4.9x3.9mm, Pitch 1.27mm, IPC Medium Density)
footprint SO-8_L (SOIC, 8-Leads, Body 4.9x3.9mm, Pitch 1.27mm, IPC High Density)
footprint SO-8_M (SOIC, 8-Leads, Body 4.9x3.9mm, Pitch 1.27mm, IPC Low Density)
3D model SO-8 (8-Pin Small Outline Integrated Circuit 1.27 mm Pitch)
simulation model EL2160 (SUBCKT)
pins: 1 NC, 2 IN- (in), 3 IN+ (in), 4 V- (power), 5 NC, 6 OUT (out), 7 V+ (power), 8 NC
text: 1, 5, 8

## EL2165CN
designator U?
30 MHz Precision Current Mode Feedback Amplifier; Note: Pins 1,5,8 are No Connection; Published: 8-Jun-2000; LatestRevisionDate: 17-Jul-2002; LatestRevisionNote: Re-released for DXP Platform.; DatasheetVersion: Dec-1995; PackageReference: MDP0031-8; Publisher: Altium Limited; PackageDescription: DIP; 8 Leads; Row Spacing 7.62 mm; Pitch 2.54 mm; ComponentLink1Description: Manufacturer Link; ComponentLink1URL: http://www.intersil.com/cda/home/
footprint MDP0031-8 (DIP; 8 Leads; Row Spacing 7.62 mm; Pitch 2.54 mm)
pins: 1 NC, 2 IN- (in), 3 IN+ (in), 4 V- (power), 5 NC, 6 OUT (out), 7 V+ (power), 8 NC
text: 1, 5, 8

## EL2165CS
designator U?
30 MHz Precision Current Mode Feedback Amplifier; Note: Pins 1,5,8 are No Connection; Published: 8-Jun-2000; LatestRevisionDate: 13-Apr-2006; LatestRevisionNote: IPC-7351 Footprint Added.; DatasheetVersion: Dec-1995; PackageReference: SO-8; Publisher: Altium Limited; PackageDescription: 8-Pin Small Outline Integrated Circuit 1.27 mm Pitch; ComponentLink1Description: Manufacturer Link; ComponentLink1URL: http://www.intersil.com/cda/home/
footprint SO-8_N (SOIC, 8-Leads, Body 4.9x3.9mm, Pitch 1.27mm, IPC Medium Density)
footprint SO-8_L (SOIC, 8-Leads, Body 4.9x3.9mm, Pitch 1.27mm, IPC High Density)
footprint SO-8_M (SOIC, 8-Leads, Body 4.9x3.9mm, Pitch 1.27mm, IPC Low Density)
3D model SO-8 (8-Pin Small Outline Integrated Circuit 1.27 mm Pitch)
pins: 1 NC, 2 IN- (in), 3 IN+ (in), 4 V- (power), 5 NC, 6 OUT (out), 7 V+ (power), 8 NC
text: 1, 5, 8

## EL2166CN
designator U?
110 MHz Current Feedback Amplifier with Disable; Note: Pin 5 is No Connection; Published: 8-Jun-2000; LatestRevisionDate: 17-Jul-2002; LatestRevisionNote: Re-released for DXP Platform.; DatasheetVersion: Dec-1995; PackageReference: MDP0031-8; Publisher: Altium Limited; PackageDescription: DIP; 8 Leads; Row Spacing 7.62 mm; Pitch 2.54 mm; ComponentLink1Description: Manufacturer Link; ComponentLink1URL: http://www.intersil.com/cda/home/
footprint MDP0031-8 (DIP; 8 Leads; Row Spacing 7.62 mm; Pitch 2.54 mm)
simulation model EL2166 (SUBCKT)
pins: 1 GND, 2 IN- (in), 3 IN+ (in), 4 -V (power), 5 NC, 6 OUT (hiz), 7 +V (power), 8 ~{DIS}

## EL2166CS
designator U?
110 MHz Current Feedback Amplifier with Disable; Note: Pin 5 is No Connection; Published: 8-Jun-2000; LatestRevisionDate: 13-Apr-2006; LatestRevisionNote: IPC-7351 Footprint Added.; DatasheetVersion: Dec-1995; PackageReference: SO-8; Publisher: Altium Limited; PackageDescription: 8-Pin Small Outline Integrated Circuit 1.27 mm Pitch; ComponentLink1Description: Manufacturer Link; ComponentLink1URL: http://www.intersil.com/cda/home/
footprint SO-8_N (SOIC, 8-Leads, Body 4.9x3.9mm, Pitch 1.27mm, IPC Medium Density)
footprint SO-8_L (SOIC, 8-Leads, Body 4.9x3.9mm, Pitch 1.27mm, IPC High Density)
footprint SO-8_M (SOIC, 8-Leads, Body 4.9x3.9mm, Pitch 1.27mm, IPC Low Density)
3D model SO-8 (8-Pin Small Outline Integrated Circuit 1.27 mm Pitch)
simulation model EL2166 (SUBCKT)
pins: 1 GND, 2 IN- (in), 3 IN+ (in), 4 -V (power), 5 NC, 6 OUT (hiz), 7 +V (power), 8 ~{DIS}

## EL2171CN
designator U?
150 MHz Current Feedback Amplifier; Note: Pins 1,5,8 are No Connection; Published: 8-Jun-2000; LatestRevisionDate: 17-Jul-2002; LatestRevisionNote: Re-released for DXP Platform.; DatasheetVersion: Dec-1995; PackageReference: MDP0031-8; Publisher: Altium Limited; PackageDescription: DIP; 8 Leads; Row Spacing 7.62 mm; Pitch 2.54 mm; ComponentLink1Description: Manufacturer Link; ComponentLink1URL: http://www.intersil.com/cda/home/
footprint MDP0031-8 (DIP; 8 Leads; Row Spacing 7.62 mm; Pitch 2.54 mm)
pins: 1 NC, 2 IN- (in), 3 IN+ (in), 4 V- (power), 5 NC, 6 OUT (out), 7 V+ (power), 8 NC
text: 1, 5, 8

## EL2171CS
designator U?
150 MHZ Current Feedback Amplifier; Note: Pins 1,5,8 are No Connection; Published: 8-Jun-2000; LatestRevisionDate: 13-Apr-2006; LatestRevisionNote: IPC-7351 Footprint Added.; DatasheetVersion: Dec-1995; PackageReference: SO-8; Publisher: Altium Limited; PackageDescription: 8-Pin Small Outline Integrated Circuit 1.27 mm Pitch; ComponentLink1Description: Manufacturer Link; ComponentLink1URL: http://www.intersil.com/cda/home/
footprint SO-8_N (SOIC, 8-Leads, Body 4.9x3.9mm, Pitch 1.27mm, IPC Medium Density)
footprint SO-8_L (SOIC, 8-Leads, Body 4.9x3.9mm, Pitch 1.27mm, IPC High Density)
footprint SO-8_M (SOIC, 8-Leads, Body 4.9x3.9mm, Pitch 1.27mm, IPC Low Density)
3D model SO-8 (8-Pin Small Outline Integrated Circuit 1.27 mm Pitch)
pins: 1 NC, 2 IN- (in), 3 IN+ (in), 4 V- (power), 5 NC, 6 OUT (out), 7 V+ (power), 8 NC
text: 1, 5, 8

## EL2171J/883B
designator U?
150 MHz Current Feedback Amplifier; Published: 8-Jun-2000; LatestRevisionDate: 04-Mar-2005; LatestRevisionNote: Stylized 3D Model Added.; DatasheetVersion: Jul-1992; PackageReference: MDP0010; Publisher: Altium Limited; PackageDescription: DIP; 8 Leads; Row Spacing 7.62 mm; Pitch 2.54 mm; ComponentLink1Description: Manufacturer Link; ComponentLink1URL: http://www.intersil.com/cda/home/
footprint MDP0010 (DIP; 8 Leads; Row Spacing 7.62 mm; Pitch 2.54 mm)
3D model MDP0010 (DIP; 8 Leads; Row Spacing 7.62 mm; Pitch 2.54 mm)
pins: 1 NC, 2 IN- (in), 3 IN+ (in), 4 V- (power), 5 NC, 6 OUT (hiz), 7 V+ (power), 8 DIS
text: 1, 5

## EL2175CN
designator U?
120 MHz Precision Current Mode Feedback Amplifier; Note: Pins 1,5,8 are No Connection; Published: 8-Jun-2000; LatestRevisionDate: 17-Jul-2002; LatestRevisionNote: Re-released for DXP Platform.; DatasheetVersion: Dec-1995; PackageReference: MDP0031-8; Publisher: Altium Limited; PackageDescription: DIP; 8 Leads; Row Spacing 7.62 mm; Pitch 2.54 mm; ComponentLink1Description: Manufacturer Link; ComponentLink1URL: http://www.intersil.com/cda/home/
footprint MDP0031-8 (DIP; 8 Leads; Row Spacing 7.62 mm; Pitch 2.54 mm)
simulation model EL2175 (SUBCKT)
pins: 1 NC, 2 IN- (in), 3 IN+ (in), 4 V- (power), 5 NC, 6 OUT (out), 7 V+ (power), 8 NC
text: 1, 5, 8

## EL2175CS
designator U?
120 MHz Precision Current Mode Feedback Amplifier; Note: Pins 1,5,8 are No Connection; Published: 8-Jun-2000; LatestRevisionDate: 13-Apr-2006; LatestRevisionNote: IPC-7351 Footprint Added.; DatasheetVersion: Dec-1995; PackageReference: SO-8; Publisher: Altium Limited; PackageDescription: 8-Pin Small Outline Integrated Circuit 1.27 mm Pitch; ComponentLink1Description: Manufacturer Link; ComponentLink1URL: http://www.intersil.com/cda/home/
footprint SO-8_N (SOIC, 8-Leads, Body 4.9x3.9mm, Pitch 1.27mm, IPC Medium Density)
footprint SO-8_L (SOIC, 8-Leads, Body 4.9x3.9mm, Pitch 1.27mm, IPC High Density)
footprint SO-8_M (SOIC, 8-Leads, Body 4.9x3.9mm, Pitch 1.27mm, IPC Low Density)
3D model SO-8 (8-Pin Small Outline Integrated Circuit 1.27 mm Pitch)
simulation model EL2175 (SUBCKT)
pins: 1 NC, 2 IN- (in), 3 IN+ (in), 4 V- (power), 5 NC, 6 OUT (out), 7 V+ (power), 8 NC
text: 1, 5, 8

## EL2176CN
designator U?
70 MHz / 1 mA Current Mode Feedback Amplifier with Disable; Published: 8-Jun-2000; LatestRevisionDate: 17-Jul-2002; LatestRevisionNote: Re-released for DXP Platform.; DatasheetVersion: Dec-1995; PackageReference: MDP0031-8; Publisher: Altium Limited; PackageDescription: DIP; 8 Leads; Row Spacing 7.62 mm; Pitch 2.54 mm; ComponentLink1Description: Manufacturer Link; ComponentLink1URL: http://www.intersil.com/cda/home/
footprint MDP0031-8 (DIP; 8 Leads; Row Spacing 7.62 mm; Pitch 2.54 mm)
simulation model EL2176 (SUBCKT)
pins: 1 NC, 2 IN- (in), 3 IN+ (in), 4 V- (power), 5 NC, 6 OUT (hiz), 7 V+ (power), 8 ~{DIS}
text: 1, 5

## EL2176CS
designator U?
70 MHz / 1 mA Current Mode Feedback Amplifier with Disable; Published: 8-Jun-2000; LatestRevisionDate: 13-Apr-2006; LatestRevisionNote: IPC-7351 Footprint Added.; DatasheetVersion: Dec-1995; PackageReference: SO-8; Publisher: Altium Limited; PackageDescription: 8-Pin Small Outline Integrated Circuit 1.27 mm Pitch; ComponentLink1Description: Manufacturer Link; ComponentLink1URL: http://www.intersil.com/cda/home/
footprint SO-8_N (SOIC, 8-Leads, Body 4.9x3.9mm, Pitch 1.27mm, IPC Medium Density)
footprint SO-8_L (SOIC, 8-Leads, Body 4.9x3.9mm, Pitch 1.27mm, IPC High Density)
footprint SO-8_M (SOIC, 8-Leads, Body 4.9x3.9mm, Pitch 1.27mm, IPC Low Density)
3D model SO-8 (8-Pin Small Outline Integrated Circuit 1.27 mm Pitch)
simulation model EL2176 (SUBCKT)
pins: 1 NC, 2 IN- (in), 3 IN+ (in), 4 V- (power), 5 NC, 6 OUT (hiz), 7 V+ (power), 8 ~{DIS}
text: 1, 5

## EL2186CN
designator U?
250 MHz / 3 mA Current Mode Feedback Amplifier with Disable; Published: 8-Jun-2000; LatestRevisionDate: 17-Jul-2002; LatestRevisionNote: Re-released for DXP Platform.; DatasheetVersion: May-1996; PackageReference: MDP0031-8; Publisher: Altium Limited; PackageDescription: DIP; 8 Leads; Row Spacing 7.62 mm; Pitch 2.54 mm; ComponentLink1Description: Manufacturer Link; ComponentLink1URL: http://www.intersil.com/cda/home/
footprint MDP0031-8 (DIP; 8 Leads; Row Spacing 7.62 mm; Pitch 2.54 mm)
simulation model EL2186 (SUBCKT)
pins: 1 NC, 2 IN- (in), 3 IN+ (in), 4 V- (power), 5 NC, 6 OUT (hiz), 7 V+ (power), 8 ~{DIS}
text: 1, 5

## EL2186CS
designator U?
250 MHz/ 3 mA Current Mode Feedback Amplifier with Disable; Published: 8-Jun-2000; LatestRevisionDate: 13-Apr-2006; LatestRevisionNote: IPC-7351 Footprint Added.; DatasheetVersion: May-1996; PackageReference: SO-8; Publisher: Altium Limited; PackageDescription: 8-Pin Small Outline Integrated Circuit 1.27 mm Pitch; ComponentLink1Description: Manufacturer Link; ComponentLink1URL: http://www.intersil.com/cda/home/
footprint SO-8_N (SOIC, 8-Leads, Body 4.9x3.9mm, Pitch 1.27mm, IPC Medium Density)
footprint SO-8_L (SOIC, 8-Leads, Body 4.9x3.9mm, Pitch 1.27mm, IPC High Density)
footprint SO-8_M (SOIC, 8-Leads, Body 4.9x3.9mm, Pitch 1.27mm, IPC Low Density)
3D model SO-8 (8-Pin Small Outline Integrated Circuit 1.27 mm Pitch)
simulation model EL2186 (SUBCKT)
pins: 1 NC, 2 IN- (in), 3 IN+ (in), 4 V- (power), 5 NC, 6 OUT (hiz), 7 V+ (power), 8 ~{DIS}
text: 1, 5

## EL2190G
designator U?
Wideband, Fast Settling Operational Amplifier; Note: Case tied to pin 10.; Published: 8-Jun-2000; LatestRevisionDate: 17-Jul-2002; LatestRevisionNote: Re-released for DXP Platform.; DatasheetVersion: Jul-1991; PackageVersion: 1993; PackageReference: MDP0002; Publisher: Altium Limited; PackageDescription: Can; 12 Leads; 10.16 mm Square Array; Lead Dia. 0.48 mm (max); ComponentLink1Description: Manufacturer Link; ComponentLink1URL: http://www.intersil.com/cda/home/
footprint MDP0002 (Can; 12 Leads; 10.16 mm Square Array; Lead Dia. 0.48 mm (max))
pins: 1 NC, 2 NC, 3 NC, 4 NC, 5 IN- (in), 6 IN+ (in), 7 NC, 8 NC, 9 NC, 10 V- (power), 11 OUT (out), 12 V+ (power)
text: 1 - 4; 7 - 9

## EL2190G/883B
designator U?
Wideband, Fast Settling Operational Amplifier; Note: Case tied to pin 10.; Published: 8-Jun-2000; LatestRevisionDate: 17-Jul-2002; LatestRevisionNote: Re-released for DXP Platform.; DatasheetVersion: Jul-1991; PackageVersion: 1993; PackageReference: MDP0002; Publisher: Altium Limited; PackageDescription: Can; 12 Leads; 10.16 mm Square Array; Lead Dia. 0.48 mm (max); ComponentLink1Description: Manufacturer Link; ComponentLink1URL: http://www.intersil.com/cda/home/
footprint MDP0002 (Can; 12 Leads; 10.16 mm Square Array; Lead Dia. 0.48 mm (max))
pins: 1 NC, 2 NC, 3 NC, 4 NC, 5 IN- (in), 6 IN+ (in), 7 NC, 8 NC, 9 NC, 10 V- (power), 11 OUT (out), 12 V+ (power)
text: 1 - 4; 7 - 9

## EL2190L/883B
designator U?
Wideband, Fast Settling Operational Amplifier; Note: Pins 1-5,7,10-13,15,17-20 are No Connection and not drawn; Published: 8-Jun-2000; LatestRevisionDate: 17-Jul-2002; LatestRevisionNote: Re-released for DXP Platform.; DatasheetVersion: Jul-1991; PackageVersion: 1993; PackageReference: MDP0007; Publisher: Altium Limited; PackageDescription: Leadless Chip Carrier; 20 Terminals; Body 8.9 x 8.9 mm; ComponentLink1Description: Manufacturer Link; ComponentLink1URL: http://www.intersil.com/cda/home/
footprint MDP0007 (Leadless Chip Carrier; 20 Terminals; Body 8.9 x 8.9 mm)
pins: 1 NC, 2 NC, 3 NC, 4 NC, 5 NC, 6 IN- (in), 7 NC, 8 IN+ (in), 9 V- (power), 10 NC, 11 NC, 12 NC, 13 NC, 14 OUT (out), 15 NC, 16 V+ (power), 17 NC, 18 NC, 19 NC, 20 NC
text: 10 - 13; 1 - 5; 17 - 20; 7, 15

## EL2195CG
designator U?
Wideband, Fast Settling Operational Amplifier; Note: Case tied to pin 10.; Published: 8-Jun-2000; LatestRevisionDate: 17-Jul-2002; LatestRevisionNote: Re-released for DXP Platform.; DatasheetVersion: Jul-1991; PackageVersion: 1993; PackageReference: MDP0002; Publisher: Altium Limited; PackageDescription: Can; 12 Leads; 10.16 mm Square Array; Lead Dia. 0.48 mm (max); ComponentLink1Description: Manufacturer Link; ComponentLink1URL: http://www.intersil.com/cda/home/
footprint MDP0002 (Can; 12 Leads; 10.16 mm Square Array; Lead Dia. 0.48 mm (max))
pins: 1 NC, 2 NC, 3 NC, 4 NC, 5 IN- (in), 6 IN+ (in), 7 NC, 8 NC, 9 NC, 10 V- (power), 11 OUT (out), 12 V+ (power)
text: 1 - 4; 7 - 9

## EL2210CN
designator U?
Low Cost, Dual Video Operational Amplifier; Published: 8-Jun-2000; LatestRevisionDate: 17-Jul-2002; LatestRevisionNote: Re-released for DXP Platform.; DatasheetVersion: Jan-1996; PackageReference: MDP0031-8; Publisher: Altium Limited; PackageDescription: DIP; 8 Leads; Row Spacing 7.62 mm; Pitch 2.54 mm; ComponentLink1Description: Manufacturer Link; ComponentLink1URL: http://www.intersil.com/cda/home/
footprint MDP0031-8 (DIP; 8 Leads; Row Spacing 7.62 mm; Pitch 2.54 mm)
simulation model EL2210 (SUBCKT)
pins on every part: 4 V- (power), 8 V+ (power)
part A pins: 1 OUT (out), 2 IN- (in), 3 IN+ (in)
part B pins: 5 IN+ (in), 6 IN- (in), 7 OUT (out)
part A text: A
part B text: B